# Altium integrated library Honeywell_40PC250G1A.IntLib: 1 symbol
Pins are listed as number, name and electrical type; pins without a type are passive.

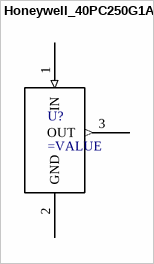
[diagram p0: symbol Honeywell_40PC250G1A]

## Honeywell_40PC250G1A
designator U?
footprint DIP762W50P254L730H410Q6
pins: 1 IN (in), 2 GND (power), 3 OUT (out)